# Altium footprint library PcbLib1.PcbLib: 21 footprints (part 1 of 2)
Each footprint in its own frame and in the unit in brackets; x right, y up, seen from the top. Pads: shape width x height; smd on the part's side, far side on the other; paste and mask are expansions set on the pad; w line width, h text height; cw(c..) or ccw(c..) is an arc to the next point about the centre after c.
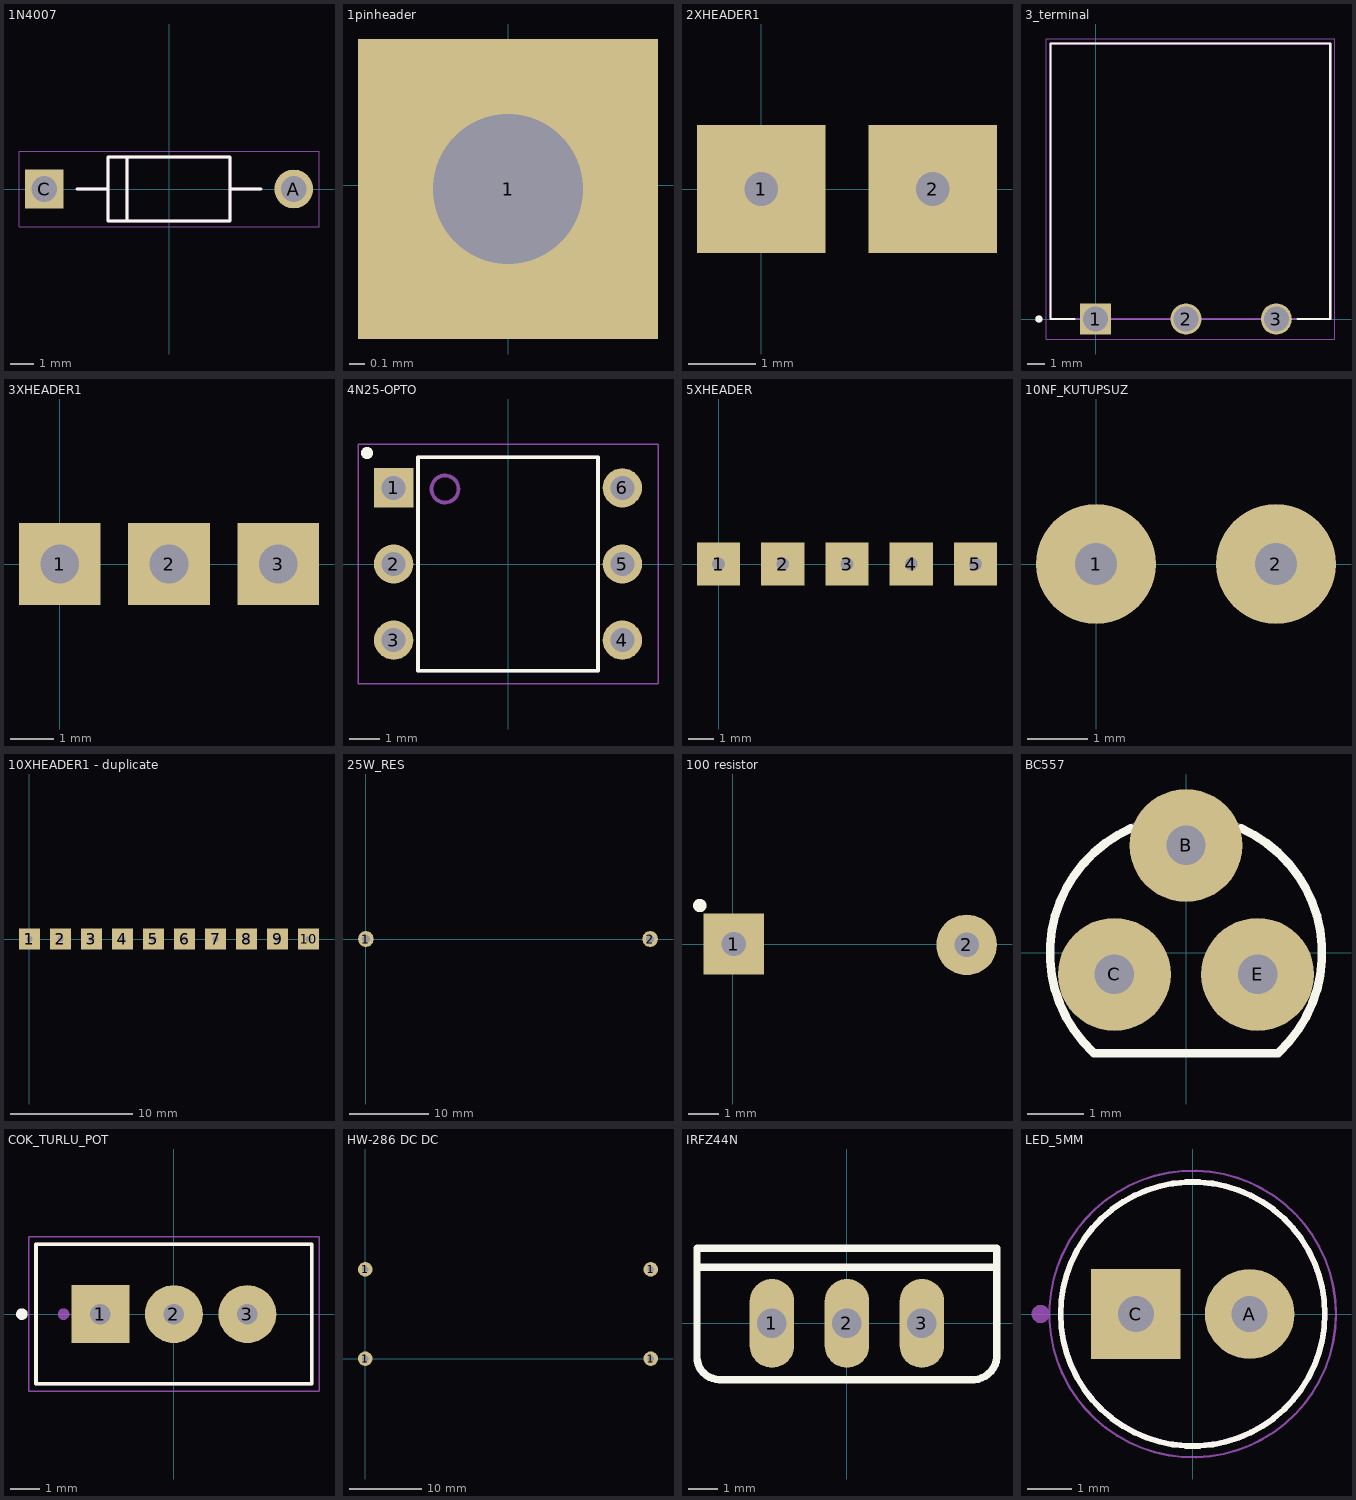
[diagram p0: the footprints below, top view; thin cyan lines are the x and y axes]

## 1N4007 [mm]
pads (2):
  round 1.65 hole 1.1: A(5.3,0)
  rect 1.65x1.65 hole 1.1: C(-5.3,0)
Top Overlay:
  lines w0.127: -3.9,0 -2.6,0 ; 3.9,0 2.6,0 ; -2.6,0 -2.6,1.35 -1.775,1.35 ; -2.6,0 -2.6,-1.35 -1.775,-1.35 ; -1.775,-1.35 2.6,-1.35 2.6,0 ; -1.775,-1.35 -1.775,1.35 ; -1.775,1.35 2.6,1.35 2.6,0
Mechanical 13:
  lines w0.127: -3.9,0 -2.6,0 ; 3.9,0 2.6,0 ; -2.6,0 -2.6,1.35 -1.775,1.35 ; -2.6,0 -2.6,-1.35 -1.775,-1.35 ; -1.775,-1.35 2.6,-1.35 2.6,0 ; -1.775,-1.35 -1.775,1.35 ; -1.775,1.35 2.6,1.35 2.6,0
Mechanical 15:
  lines w0.05: -6.375,-1.6 6.375,-1.6 6.375,1.6 -6.375,1.6 -6.375,-1.6

## 1pinheader [mm]
pads (1):
  rect 2x2 hole 1 square: 1(0,-0.025)
3D body "User Library-Header_Male_1Pin.STEP": height 8.64, standoff -2.9, extent -1.27,-1.27 1.27,1.22

## 2XHEADER1 [mm]
pads (2):
  rect 1.9x1.9 hole 0.5: 1(0,0) 2(2.54,0)

## 3_terminal [mm]
pads (3):
  rect 1.75x1.75 hole 1.4: 1(0,0)
  round 1.75 hole 1.4: 2(5.08,0) 3(10.16,0)
Top Overlay:
  circle w0.2: c-3.19,0 r0.1
  lines w0.127: -1.195,0 -2.54,0 -2.54,15.5 13.2,15.5 13.2,0 11.355,0
Mechanical 13:
  circle w0.2: c-3.19,0 r0.1
  lines w0.127: -2.54,0 -2.54,15.5 ; -2.54,0 13.2,0 ; -2.54,0 -2.54,15.5 ; -2.54,15.5 13.2,15.5 ; -2.54,15.5 13.2,15.5 ; 13.2,0 13.2,15.5 ; 13.2,0 13.2,15.5
Mechanical 15:
  lines w0.05: -2.79,-1.125 -2.79,15.75 13.45,15.75 13.45,-1.125 -2.79,-1.125

## 3XHEADER1 [mm]
pads (3):
  rect 1.9x1.9 hole 0.9 square: 1(0,0) 2(2.54,0) 3(5.08,0)

## 4N25-OPTO [mm]
pads (6):
  rect 1.308x1.308 hole 0.8: 1(-3.81,2.54)
  round 1.308 hole 0.8: 2(-3.81,0) 3(-3.81,-2.54) 4(3.81,-2.54) 5(3.81,0) 6(3.81,2.54)
Top Overlay:
  circle w0.2: c-4.7,3.7 r0.1
  lines w0.127: -3,-3.56 -3,3.56 3,3.56 3,-3.56 -3,-3.56
Mechanical 13:
  circle w0.127: c-2.1,2.5 r0.45
  lines w0.127: -3,-3.56 -3,3.56 3,3.56 3,-3.56 -3,-3.56
Mechanical 15:
  lines w0.05: -5,-4 -5,4 5,4 5,-4 -5,-4

## 5XHEADER [mm]
pads (5):
  rect 1.7x1.7 hole 0.5: 1(0,0) 2(2.54,0) 3(5.08,0) 4(7.62,0) 5(10.16,0)

## 10NF_KUTUPSUZ [mm]
pads (2):
  round 2 hole 0.7: 1(0,0) 2(3,0)

## 10XHEADER1 - duplicate [mm]
pads (10):
  rect 1.7x1.7 hole 0.5: 1(0,0) 2(2.54,0) 3(5.08,0) 4(7.62,0) 5(10.16,0) 6(12.7,0) 7(15.24,0) 8(17.78,0) 9(20.32,0) 10(22.86,0)

## 25W_RES [mm]
pads (2):
  round 2 hole 1: 1(0,0) 2(36,0)
3D body "User Library-HS50 120R, ARCOL.STEP": height 14.8, standoff 0, extent -14.966,-2.277 51.034,27.423

## 100 resistor [mm]
pads (2):
  rect 2x2 hole 0.8 mask+0.05: 1(0.025,0)
  round 2 hole 0.8 mask+0.05: 2(7.696,-0.025)
Top Overlay:
  circle w0.254: c-1.092,1.27 r0.092
3D body "CircuitWorks-RESISTOR 7_62MM DIP.STEP": height 2, standoff -2, extent -0.164,-1.076 7.936,0.924

## BC557 [mm]
pads (3):
  round 2 hole 0.7: B(0,1.905) C(-1.27,-0.381) E(1.27,-0.381)
Top Overlay:
  lines w0.152: -1.645,-1.765 cw(c0,0) -0.981,2.204 ; -1.631,-1.778 1.631,-1.778 ; 0.981,2.204 cw(c0,0) 1.645,-1.765
Mechanical 13:
  lines w0.152: -0.981,2.204 cw(c0,0) 0.981,2.204

## COK_TURLU_POT [mm]
pads (3):
  rect 2x2 hole 0.71: 1(-2.54,0)
  round 2 hole 0.71: 2(0,0) 3(2.54,0)
Top Overlay:
  circle w0.2: c-5.25,0 r0.1
  lines w0.127: -4.765,-2.41 4.765,-2.41 4.765,2.42 -4.765,2.42 -4.765,-2.41
Mechanical 13:
  circle w0.2: c-3.81,0 r0.1
  lines w0.127: -4.765,-2.41 -4.765,2.42 4.765,2.42 4.765,-2.41 -4.765,-2.41
Mechanical 15:
  lines w0.05: -5.015,-2.66 -5.015,2.67 5.015,2.67 5.015,-2.66 -5.015,-2.66
3D body "step_temp.STEP": height 11.55, standoff -7.72, extent -4.765,-2.42 4.765,2.41

## HW-286 DC DC [mm]
pads (4):
  round 2 hole 0.9: 1(0,0) 1(0,12.3) 1(39.4,0) 1(39.4,12.3)

## IRFZ44N [mm]
pads (3):
  oval 1.508x3.016 hole 1: 1(-2.54,0) 2(0,0) 3(2.54,0)
Top Overlay:
  lines w0.254: 4.312,-1.905 ccw(c4.255,-1.079) 5.08,-1.022 ; 4.318,-1.905 -4.318,-1.905 cw(c-4.318,-1.143) -5.08,-1.143 -5.08,1.905 ; 5.08,-1.016 5.08,1.905 ; -5.08,1.905 -5.08,2.54 5.08,2.54 5.08,1.905 ; -5.08,1.905 5.08,1.905
Mechanical 13:
  lines w0.203: -5.08,1.905 -5.08,2.54 5.08,2.54 5.08,1.905 ; -4.318,-1.905 4.318,-1.905

## LED_5MM [mm]
pads (2):
  round 2 hole 0.8: A(1.27,0)
  rect 2x2 hole 0.8: C(-1.27,0)
Top Overlay:
  circle w0.127: c0,0 r2.95
Mechanical 13:
  circle w0.127: c0,0 r2.95
  circle w0.2: c-3.4,0 r0.1
Mechanical 15:
  circle w0.05: c0,0 r3.2